# Altium schematic symbol library DIODE STANDARD 600V 5A.Schlib: 1 symbol
Pins are listed as number, name and electrical type; pins without a type are passive.

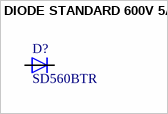
[diagram p0: symbol DIODE STANDARD 600V 5A]

## DIODE STANDARD 600V 5A
designator D?, comment SD560BTR
Diode Standard 600V 5A Surface Mount SMB
pins: A, C